# Altium footprint library fszhang.PcbLib: 172 footprints (part 5 of 11)
Each footprint in its own frame and in the unit in brackets; x right, y up, seen from the top. Pads: shape width x height; smd on the part's side, far side on the other; paste and mask are expansions set on the pad; w line width, h text height; cw(c..) or ccw(c..) is an arc to the next point about the centre after c.
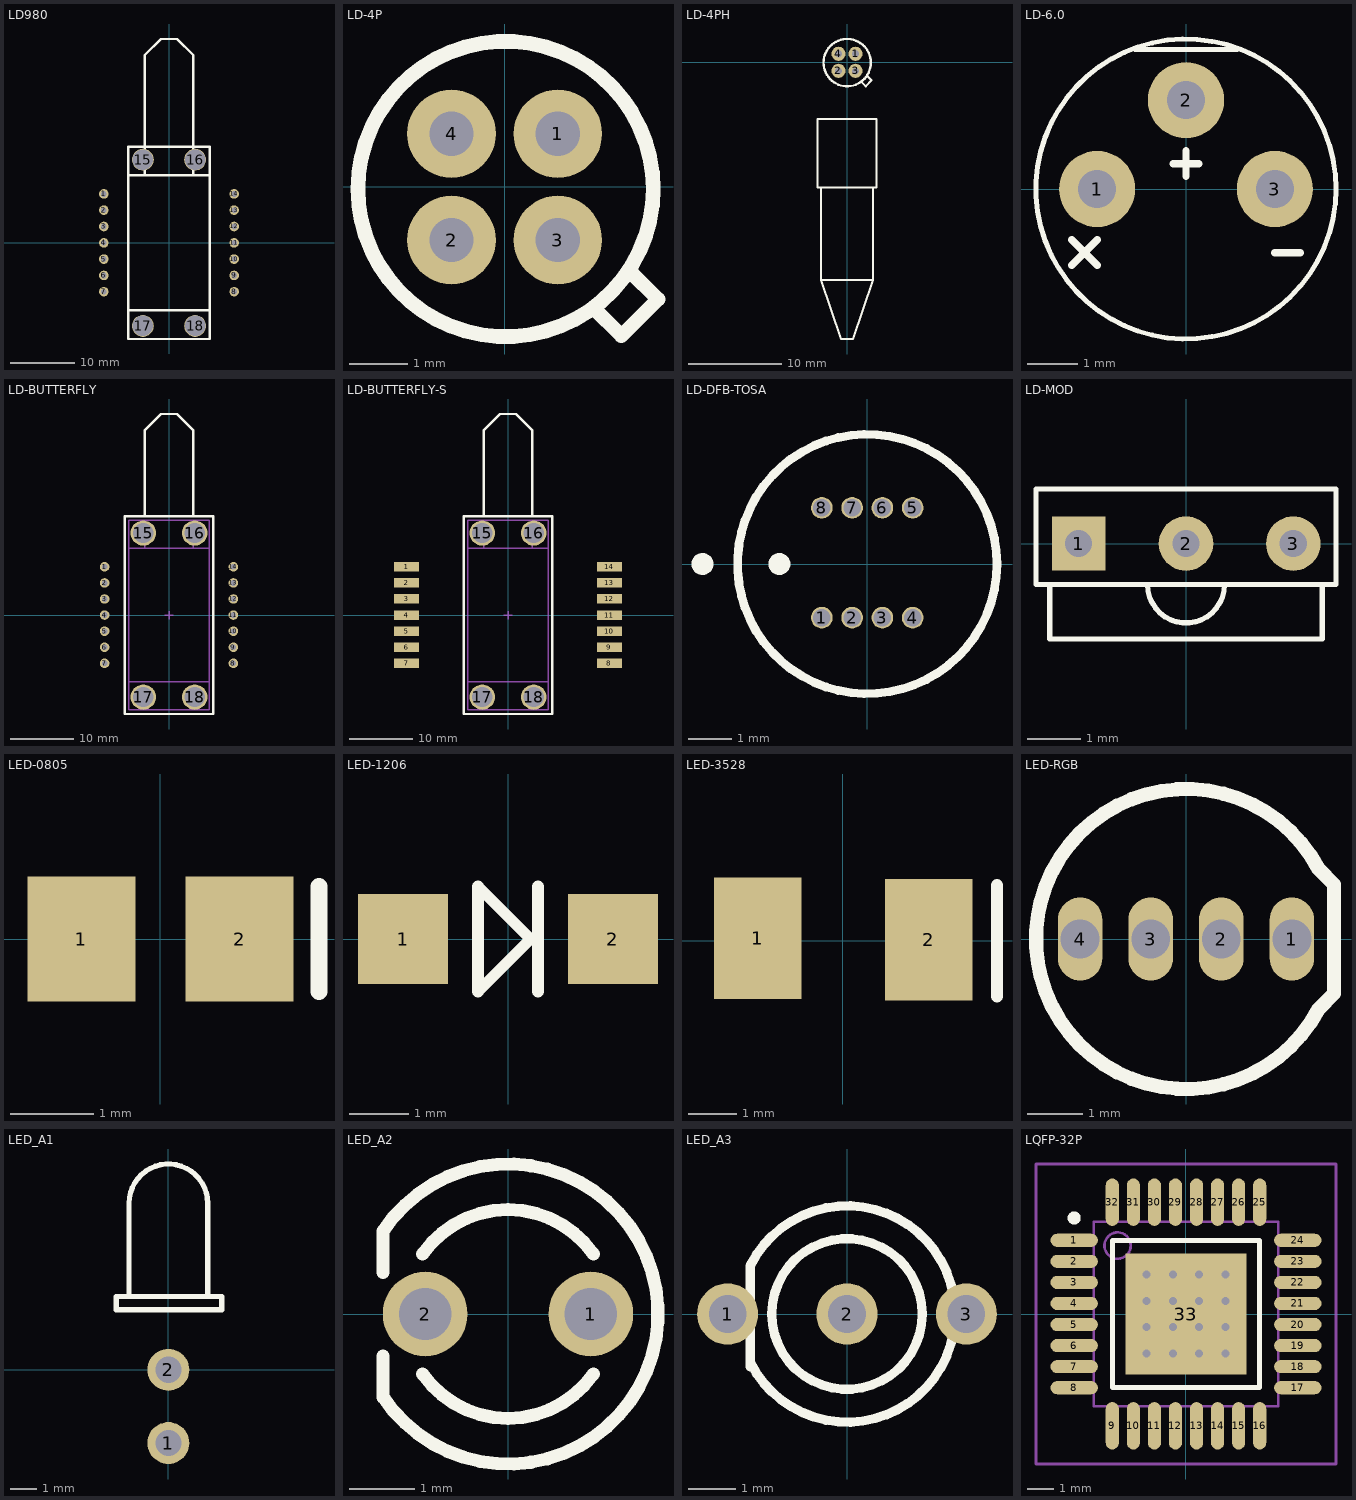
[diagram p4: the footprints below, top view; thin cyan lines are the x and y axes]

## LD980 [mm]
pads (18):
  round 1.5 hole 0.9: 1(-10.16,7.62) 2(-10.16,5.08) 3(-10.16,2.54) 4(-10.16,0) 5(-10.16,-2.54) 6(-10.16,-5.08) 7(-10.16,-7.62) 8(10.16,-7.62) 9(10.16,-5.08) 10(10.16,-2.54) 11(10.16,0) 12(10.16,2.54) 13(10.16,5.08) 14(10.16,7.62)
  round 3.4 hole 3.2: 15(-4.064,12.954) 16(4.064,12.954) 17(-4.064,-12.954) 18(4.064,-12.954)
Top Overlay:
  lines w0.381: -3.81,10.541 -3.81,29.21 -1.27,31.75 1.27,31.75 3.81,29.21 3.81,10.541 ; -6.35,-10.541 -6.35,-14.986 6.35,-14.986 6.35,-10.541 ; -6.35,-10.541 6.35,-10.541 ; -6.35,-10.541 -6.35,0 -6.35,10.541 ; -6.35,10.541 -6.35,14.986 6.35,14.986 6.35,10.541 ; -6.35,10.541 6.35,10.541 ; 6.35,-10.541 6.35,10.541
3D body: height 10.21, standoff 9.6, extent 6.048,7.316 10.493,7.924
3D body: height 14.6, standoff 0, extent -6.35,-10.541 6.35,10.541
3D body: height 1.78, standoff 0, extent -6.35,-15.24 6.35,15.24
3D body: height 10.79, standoff 3.18, extent -3.78,10.541 3.81,28.321
3D body: height 10.16, standoff 0, extent 9.858,7.316 10.465,7.924
3D body: height 10.16, standoff 0, extent 9.858,4.776 10.465,5.384
3D body: height 10.21, standoff 9.6, extent 6.048,4.776 10.493,5.384
3D body: height 10.16, standoff 0, extent 9.858,2.236 10.465,2.844
3D body: height 10.21, standoff 9.6, extent 6.048,2.236 10.493,2.844
3D body: height 10.16, standoff 0, extent 9.858,-0.304 10.465,0.304
3D body: height 10.21, standoff 9.6, extent 6.048,-0.304 10.493,0.304
3D body: height 10.16, standoff 0, extent 9.858,-2.844 10.465,-2.236
3D body: height 10.21, standoff 9.6, extent 6.048,-2.844 10.493,-2.236
3D body: height 10.16, standoff 0, extent 9.858,-5.384 10.465,-4.776
3D body: height 10.21, standoff 9.6, extent 6.048,-5.384 10.493,-4.776
3D body: height 10.16, standoff 0, extent 9.858,-7.924 10.465,-7.316
3D body: height 10.21, standoff 9.6, extent 6.048,-7.924 10.493,-7.316
3D body: height 10.21, standoff 9.6, extent -10.493,7.316 -6.048,7.924
3D body: height 10.16, standoff 0, extent -10.465,7.316 -9.858,7.924
3D body: height 10.21, standoff 9.6, extent -10.493,4.776 -6.048,5.384
3D body: height 10.16, standoff 0, extent -10.465,4.776 -9.858,5.384
3D body: height 10.21, standoff 9.6, extent -10.493,2.236 -6.048,2.844
3D body: height 10.16, standoff 0, extent -10.465,2.236 -9.858,2.844
3D body: height 10.21, standoff 9.6, extent -10.493,-0.304 -6.048,0.304
3D body: height 10.16, standoff 0, extent -10.465,-0.304 -9.858,0.304
3D body: height 10.21, standoff 9.6, extent -10.493,-2.844 -6.048,-2.236
3D body: height 10.16, standoff 0, extent -10.465,-2.844 -9.858,-2.236
3D body: height 10.21, standoff 9.6, extent -10.493,-5.384 -6.048,-4.776
3D body: height 10.16, standoff 0, extent -10.465,-5.384 -9.858,-4.776
3D body: height 10.16, standoff 0, extent -10.465,-7.924 -9.858,-7.316
3D body: height 10.21, standoff 9.6, extent -10.493,-7.924 -6.048,-7.316
3D body: height 17.8, standoff 0, extent -5.85,-14.75 -2.264,-11.157
3D body: height 17.8, standoff 0, extent 2.278,-14.75 5.864,-11.157
3D body: height 17.6, standoff 16, extent -15.367,-31.877 16.129,34.417

## LD-4P [mil] "激光器"
pads (4):
  round 60 hole 30: 1(36,36) 2(-36,-36) 3(36,-36) 4(-36,36)
Top Overlay:
  circle w10: c0.64,-1.43 r100
  lines w9.84: 60,-81.79 79.11,-100.89 103.86,-76.15 84.75,-57.04

## LD-4PH [mil] "激光器"
pads (4):
  round 60 hole 30: 1(36,36) 2(-36,-36) 3(36,-36) 4(-36,36)
Top Overlay:
  circle w10: c0.64,-1.43 r100
  lines w7.87: -110,-530 -110,-920 ; 110,-530 110,-920 ; -110,-920 -25,-1170 25,-1170 110,-920 ; -110,-920 110,-920 ; -125,-530 125,-530 125,-240 -125,-240 -125,-530
  lines w9.84: 60,-81.79 79.11,-100.89 103.86,-76.15 84.75,-57.04

## LD-6.0 [mil] "激光器"
height 511.81
pads (3):
  round 60 hole 30: 1(-70,0) 2(0,70) 3(70,0)
Top Overlay:
  circle w3.94: c0,0 r118.11
  lines w3.94: -40,110 40,110
  lines w5.91: -90,-60 -70,-40 ; -90,-40 -70,-60 ; -10,20 10,20 ; 0,10 0,30 ; 70,-50 90,-50

## LD-BUTTERFLY [mm]
height 2.54
pads (18):
  round 1.5 hole 0.9: 1(-10.16,7.62) 2(-10.16,5.08) 3(-10.16,2.54) 4(-10.16,0) 5(-10.16,-2.54) 6(-10.16,-5.08) 7(-10.16,-7.62) 8(10.16,-7.62) 9(10.16,-5.08) 10(10.16,-2.54) 11(10.16,0) 12(10.16,2.54) 13(10.16,5.08) 14(10.16,7.62)
  round 4 hole 3.2: 15(-4.064,12.954) 16(4.064,12.954) 17(-4.064,-12.954) 18(4.064,-12.954)
Top Overlay:
  lines w0.381: -3.81,15.621 -3.81,29.21 -1.27,31.75 1.27,31.75 3.81,29.21 3.81,15.621 ; 3.81,15.621 6.985,15.621 6.985,-15.621 -6.985,-15.621 -6.985,15.621 3.81,15.621
Top Solder:
  rectangle: -6.604,-15.24 6.604,15.24
Mechanical 15:
  lines w0.2: -6.35,-10.541 6.35,-10.541 ; -6.35,10.541 6.35,10.541 ; -3.81,10.541 -3.81,14.986 ; -0.635,0 0.635,0 ; 0,-0.635 0,0.635 ; 3.81,10.541 3.81,14.986 ; -6.35,-14.986 6.35,-14.986 6.35,14.986 -6.35,14.986 -6.35,-14.986
3D body: height 10.21, standoff 9.6, extent -10.493,-7.924 -6.048,-7.316
3D body: height 10.16, standoff 0, extent -10.465,-7.924 -9.858,-7.316
3D body: height 10.16, standoff 0, extent -10.465,-5.384 -9.858,-4.776
3D body: height 10.21, standoff 9.6, extent -10.493,-5.384 -6.048,-4.776
3D body: height 10.16, standoff 0, extent -10.465,-2.844 -9.858,-2.236
3D body: height 10.21, standoff 9.6, extent -10.493,-2.844 -6.048,-2.236
3D body: height 10.16, standoff 0, extent -10.465,-0.304 -9.858,0.304
3D body: height 10.21, standoff 9.6, extent -10.493,-0.304 -6.048,0.304
3D body: height 10.16, standoff 0, extent -10.465,2.236 -9.858,2.844
3D body: height 10.21, standoff 9.6, extent -10.493,2.236 -6.048,2.844
3D body: height 10.16, standoff 0, extent -10.465,4.776 -9.858,5.384
3D body: height 10.21, standoff 9.6, extent -10.493,4.776 -6.048,5.384
3D body: height 10.16, standoff 0, extent -10.465,7.316 -9.858,7.924
3D body: height 10.21, standoff 9.6, extent -10.493,7.316 -6.048,7.924
3D body: height 10.21, standoff 9.6, extent 6.048,-7.924 10.493,-7.316
3D body: height 10.16, standoff 0, extent 9.858,-7.924 10.465,-7.316
3D body: height 10.21, standoff 9.6, extent 6.048,-5.384 10.493,-4.776
3D body: height 10.16, standoff 0, extent 9.858,-5.384 10.465,-4.776
3D body: height 10.21, standoff 9.6, extent 6.048,-2.844 10.493,-2.236
3D body: height 10.16, standoff 0, extent 9.858,-2.844 10.465,-2.236
3D body: height 10.21, standoff 9.6, extent 6.048,-0.304 10.493,0.304
3D body: height 10.16, standoff 0, extent 9.858,-0.304 10.465,0.304
3D body: height 10.21, standoff 9.6, extent 6.048,2.236 10.493,2.844
3D body: height 10.16, standoff 0, extent 9.858,2.236 10.465,2.844
3D body: height 10.21, standoff 9.6, extent 6.048,4.776 10.493,5.384
3D body: height 10.16, standoff 0, extent 9.858,4.776 10.465,5.384
3D body: height 10.16, standoff 0, extent 9.858,7.316 10.465,7.924
3D body: height 10.79, standoff 3.18, extent -3.78,10.541 3.81,28.321
3D body: height 1.78, standoff 0, extent -6.35,-15.24 6.35,15.24
3D body: height 14.6, standoff 0, extent -6.35,-10.541 6.35,10.541
3D body: height 10.21, standoff 9.6, extent 6.048,7.316 10.493,7.924

## LD-BUTTERFLY-S [mm]
height 2.54
pads (18):
  rect 4x1.5 smd: 1(-16.026,7.62) 2(-16.026,5.08) 3(-16.026,2.54) 4(-16.026,0) 5(-16.026,-2.54) 6(-16.026,-5.08) 7(-16.026,-7.62) 8(16.026,-7.62) 9(16.026,-5.08) 10(16.026,-2.54) 11(16.026,0) 12(16.026,2.54) 13(16.026,5.08) 14(16.026,7.62)
  round 4 hole 3.2: 15(-4.064,12.954) 16(4.064,12.954) 17(-4.064,-12.954) 18(4.064,-12.954)
Top Overlay:
  lines w0.381: -3.81,15.621 -3.81,29.21 -1.27,31.75 1.27,31.75 3.81,29.21 3.81,15.621 ; 3.81,15.621 6.985,15.621 6.985,-15.621 -6.985,-15.621 -6.985,15.621 3.81,15.621
Top Solder:
  rectangle: -6.604,-15.24 6.604,15.24
Mechanical 15:
  lines w0.2: -6.35,-10.541 6.35,-10.541 ; -6.35,10.541 6.35,10.541 ; -3.81,10.541 -3.81,14.986 ; -0.635,0 0.635,0 ; 0,-0.635 0,0.635 ; 3.81,10.541 3.81,14.986 ; -6.35,-14.986 6.35,-14.986 6.35,14.986 -6.35,14.986 -6.35,-14.986
3D body: height 10.21, standoff 9.6, extent -10.493,-7.924 -6.048,-7.316
3D body: height 10.21, standoff 9.6, extent -10.493,-5.384 -6.048,-4.776
3D body: height 10.21, standoff 9.6, extent -10.493,-2.844 -6.048,-2.236
3D body: height 10.21, standoff 9.6, extent -10.493,-0.304 -6.048,0.304
3D body: height 10.21, standoff 9.6, extent -10.493,2.236 -6.048,2.844
3D body: height 10.21, standoff 9.6, extent -10.493,4.776 -6.048,5.384
3D body: height 10.21, standoff 9.6, extent -10.493,7.316 -6.048,7.924
3D body: height 10.21, standoff 9.6, extent 6.048,-7.924 10.493,-7.316
3D body: height 10.21, standoff 9.6, extent 6.048,-5.384 10.493,-4.776
3D body: height 10.21, standoff 9.6, extent 6.048,-2.844 10.493,-2.236
3D body: height 10.21, standoff 9.6, extent 6.048,-0.304 10.493,0.304
3D body: height 10.21, standoff 9.6, extent 6.048,2.236 10.493,2.844
3D body: height 10.21, standoff 9.6, extent 6.048,4.776 10.493,5.384
3D body: height 10.79, standoff 3.18, extent -3.78,10.541 3.81,28.321
3D body: height 1.78, standoff 0, extent -6.35,-15.24 6.35,15.24
3D body: height 14.6, standoff 0, extent -6.35,-10.541 6.35,10.541
3D body: height 10.21, standoff 9.6, extent 6.048,7.316 10.493,7.924

## LD-DFB-TOSA [mm]
pads (8):
  round 0.5 hole 0.4: 1(-1.05,-1.24) 2(-0.35,-1.24) 3(0.35,-1.24) 4(1.05,-1.24) 5(1.05,1.3) 6(0.35,1.3) 7(-0.35,1.3) 8(-1.05,1.3)
Top Overlay:
  circle w0.2: c0,0 r3
  circle w0.254: c-2.032,0 r0.127
  circle w0.254: c-3.81,0 r0.127

## LD-MOD [mm] "激光接收头"
height 5
pads (3):
  rect 1x1 hole 0.5: 1(-2,0)
  round 1.016 hole 0.5: 2(0,0)
  round 1.016 hole 0.508: 3(2,0)
Top Overlay:
  lines w0.1: -2.54,-0.762 -2.54,-1.778 2.54,-1.778 2.54,-0.762 ; -0.718,-0.762 ccw(c0,-0.762) 0.718,-0.762 ; -2.794,-0.762 2.794,-0.762 2.794,1.016 -2.794,1.016 -2.794,-0.762

## LED-0805 [mm] "贴片LED"
height 1.1
pads (2):
  rect 1.3x1.5 smd: 1(-0.95,0) 2(0.95,0)
Top Overlay:
  lines w0.2: 1.905,-0.635 1.905,0.635

## LED-1206 [mil] "贴片元件"
height 59.06
pads (2):
  rect 60x60 smd: 1(-70,0) 2(70,0)
Top Overlay:
  lines w7.87: 20,-35 20,35 ; -20,-35 -20,35 15,0 -20,-35
3D body: height 39.37, standoff 0, extent -75,-35 -55,35
3D body: height 39.37, standoff 0, extent 55,-35 75,35
3D body: height 39.37, standoff 0, extent -55,-35 55,35

## LED-3528 [mm] "贴片LED"
height 3
pads (2):
  rect 1.8x2.5 smd: 1(-1.753,0.052) 2(1.772,0.027)
Top Overlay:
  lines w0.254: 3.175,-1.143 3.175,1.143

## LED-RGB [mm] "三基色二极管"
height 6
pads (4):
  oval 0.8x1.5 hole 0.7: 1(1.905,0) 2(0.635,0) 3(-0.635,0) 4(-1.905,0)
Top Overlay:
  lines w0.254: 2.389,-1.258 cw(c0,0) 2.389,1.258 2.667,0.98 2.667,-0.98 2.389,-1.258

## LED_A1 [mm] "直径3MM LED"
height 3.5
pads (2):
  round 1.6 hole 1: 1(0,-2.794) 2(0,0)
Top Overlay:
  lines w0.2: -1.5,2.852 -1.5,6.35 cw(c0,6.35) 1.5,6.35 1.5,2.852 ; -1.984,2.286 2.032,2.286 2.032,2.794 -1.984,2.794 -1.984,2.286

## LED_A2 [mm] "直径3MM LED"
height 5.5
pads (2):
  round 1.3 hole 0.8: 1(1.27,0) 2(-1.27,0)
Top Overlay:
  lines w0.2: -1.914,-1.282 -1.914,-0.641 ; -1.914,-1.276 ccw(c0,0) -1.914,1.276 -1.914,0.635 ; -1.311,-0.918 ccw(c0,0) 1.311,-0.918 ; -1.311,0.918 cw(c0,0) 1.311,0.918
3D body: height 4.5, standoff -10, extent -2,-2 2,2

## LED_A3 [mm] "直径3MM双色LED"
height 5.5
pads (3):
  round 1.3 hole 0.8: 1(-2.54,0) 2(0,0) 3(2.54,0)
Top Overlay:
  circle w0.2: c0,0 r1.6
  lines w0.2: -2.057,-1.118 -2.057,1.029 cw(c0,0) -2.057,-1.029

## LQFP-32P [mm] "LQFP"
height 1.6
pads (33):
  oval 1.8x0.5 smd: 1(-4.25,2.8) 2(-4.25,2) 3(-4.25,1.2) 4(-4.25,0.4) 5(-4.25,-0.4) 6(-4.25,-1.2) 7(-4.25,-2) 8(-4.25,-2.8) 17(4.25,-2.8) 18(4.25,-2) 19(4.25,-1.2) 20(4.25,-0.4) 21(4.25,0.4) 22(4.25,1.2) 23(4.25,2) 24(4.25,2.8)
  oval 0.5x1.8 smd: 9(-2.8,-4.25) 10(-2,-4.25) 11(-1.2,-4.25) 12(-0.4,-4.25) 13(0.4,-4.25) 14(1.2,-4.25) 15(2,-4.25) 16(2.8,-4.25) 25(2.8,4.25) 26(2,4.25) 27(1.2,4.25) 28(0.4,4.25) 29(-0.4,4.25) 30(-1.2,4.25) 31(-2,4.25) 32(-2.8,4.25)
  rect 4.6x4.6 smd: 33(0,0)
via -1.5,-0.5 diameter 0.6 hole 0.3
via 1.5,-1.5 diameter 0.6 hole 0.3
via 0.5,-1.5 diameter 0.6 hole 0.3
via -1.5,-1.5 diameter 0.6 hole 0.3
via -0.5,-1.5 diameter 0.6 hole 0.3
via -0.5,0.5 diameter 0.6 hole 0.3
via -0.5,-0.5 diameter 0.6 hole 0.3
via 1.5,-0.5 diameter 0.6 hole 0.3
via 0.5,-0.5 diameter 0.6 hole 0.3
via -1.5,0.5 diameter 0.6 hole 0.3
via 0.5,0.5 diameter 0.6 hole 0.3
via 1.5,0.5 diameter 0.6 hole 0.3
via 1.5,1.5 diameter 0.6 hole 0.3
via 0.5,1.5 diameter 0.6 hole 0.3
via -0.5,1.5 diameter 0.6 hole 0.3
via -1.5,1.5 diameter 0.6 hole 0.3
Top Overlay:
  circle w0.25: c-4.25,3.65 r0.125
  lines w0.2: -2.794,-2.794 -2.794,2.794 2.794,2.794 2.794,-2.794 -2.794,-2.794
Mechanical 13:
  circle w0.1: c-2.6,2.6 r0.5
  lines w0.1: -3.5,-3.5 -3.5,3.5 3.5,3.5 3.5,-3.5 -3.5,-3.5
Mechanical 15:
  lines w0.1: -0.5,0 0.5,0 ; 0,-0.5 0,0.5 ; -5.7,-5.7 -5.7,5.7 5.7,5.7 5.7,-5.7 -5.7,-5.7
3D body: height 1.6, standoff 0, extent -3.5,-3.5 3.5,3.5